# Altium footprint library MOLEX_430450415.PcbLib: 1 footprints
Each footprint in its own frame and in the unit in brackets; x right, y up, seen from the top. Pads: shape width x height; smd on the part's side, far side on the other; paste and mask are expansions set on the pad; w line width, h text height; cw(c..) or ccw(c..) is an arc to the next point about the centre after c.
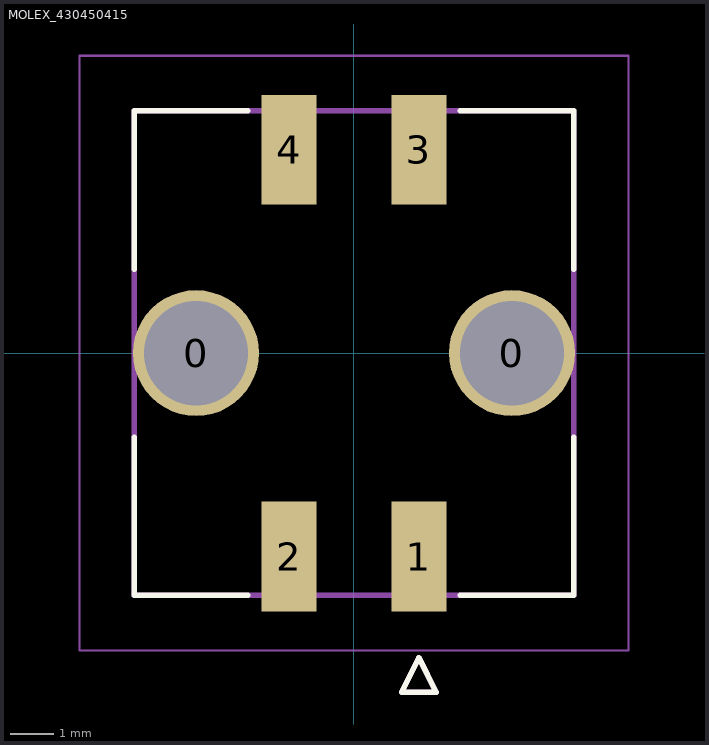
[diagram p0: the footprint, top view; thin cyan lines are the x and y axes]

## MOLEX_430450415 [mm]
pads (6):
  round 2.91 hole 2.41 mask+0.076: 0(-3.65,0) 0(3.65,0)
  rect 1.27x2.54 smd mask+0.076: 1(1.5,-4.7) 2(-1.5,-4.7) 3(1.5,4.7) 4(-1.5,4.7)
Top Overlay:
  lines w0.127: -5.075,-1.94 -5.075,-5.6 -2.455,-5.6 ; -5.075,1.94 -5.075,5.6 -2.455,5.6 ; 2.455,-5.6 5.075,-5.6 5.075,-1.94 ; 2.455,5.6 5.075,5.6 5.075,1.94 ; 1.1,-7.835 1.9,-7.835 1.5,-7.035 1.1,-7.835
Top Solder:
  circle w1.531: c3.65,0 r0.766
  circle w1.531: c-3.65,0 r0.766
Mechanical 13:
  lines w0.127: -5.075,-5.6 -5.075,5.6 5.075,5.6 5.075,-5.6 -5.075,-5.6 ; 1.1,-7.835 1.9,-7.835 1.5,-7.035 1.1,-7.835
Mechanical 15:
  lines w0.05: -6.345,-6.87 -6.345,6.87 6.345,6.87 6.345,-6.87 -6.345,-6.87
3D body "430450415--3DModel-STEP-56544.STEP": height 9.96, standoff -2, extent -5.075,-5.6 5.075,5.6